# EAGLE library part SFH7060 (library LinnesLab-Sensors)
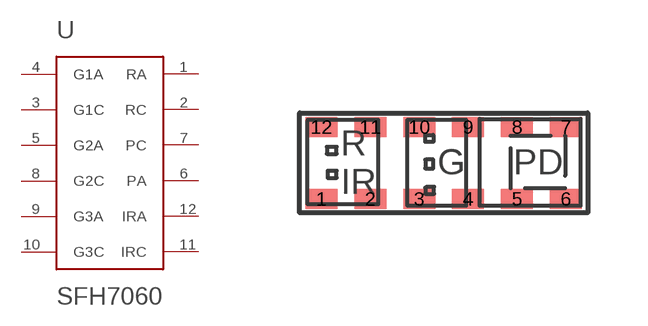
[diagram p4: symbol with the pads of SFH7060; footprint SFH7060]

Designator prefix -

## SFH7060  [SFH7060]
1  RA
2  RC
3  G1C
4  G1A
5  G2A
6  PA
7  PC
8  G2C
9  G3A
10  G3C
11  IRC
12  IRA

## Footprint SFH7060 (pad centres in mm)
smd 0.8 x 0.5: 1 -3.06,-0.9; 2 -1.836,-0.9; 3 -0.612,-0.9; 4 0.612,-0.9; 5 1.836,-0.9; 6 3.06,-0.9; 7 3.06,0.9; 8 1.836,0.9; 9 0.612,0.9; 10 -0.612,0.9; 11 -1.836,0.9; 12 -3.06,0.9